# Altium footprint library RF_Module.PcbLib: 68 footprints (part 2 of 5)
Each footprint in its own frame and in the unit in brackets; x right, y up, seen from the top. Pads: shape width x height; smd on the part's side, far side on the other; paste and mask are expansions set on the pad; w line width, h text height; cw(c..) or ccw(c..) is an arc to the next point about the centre after c.
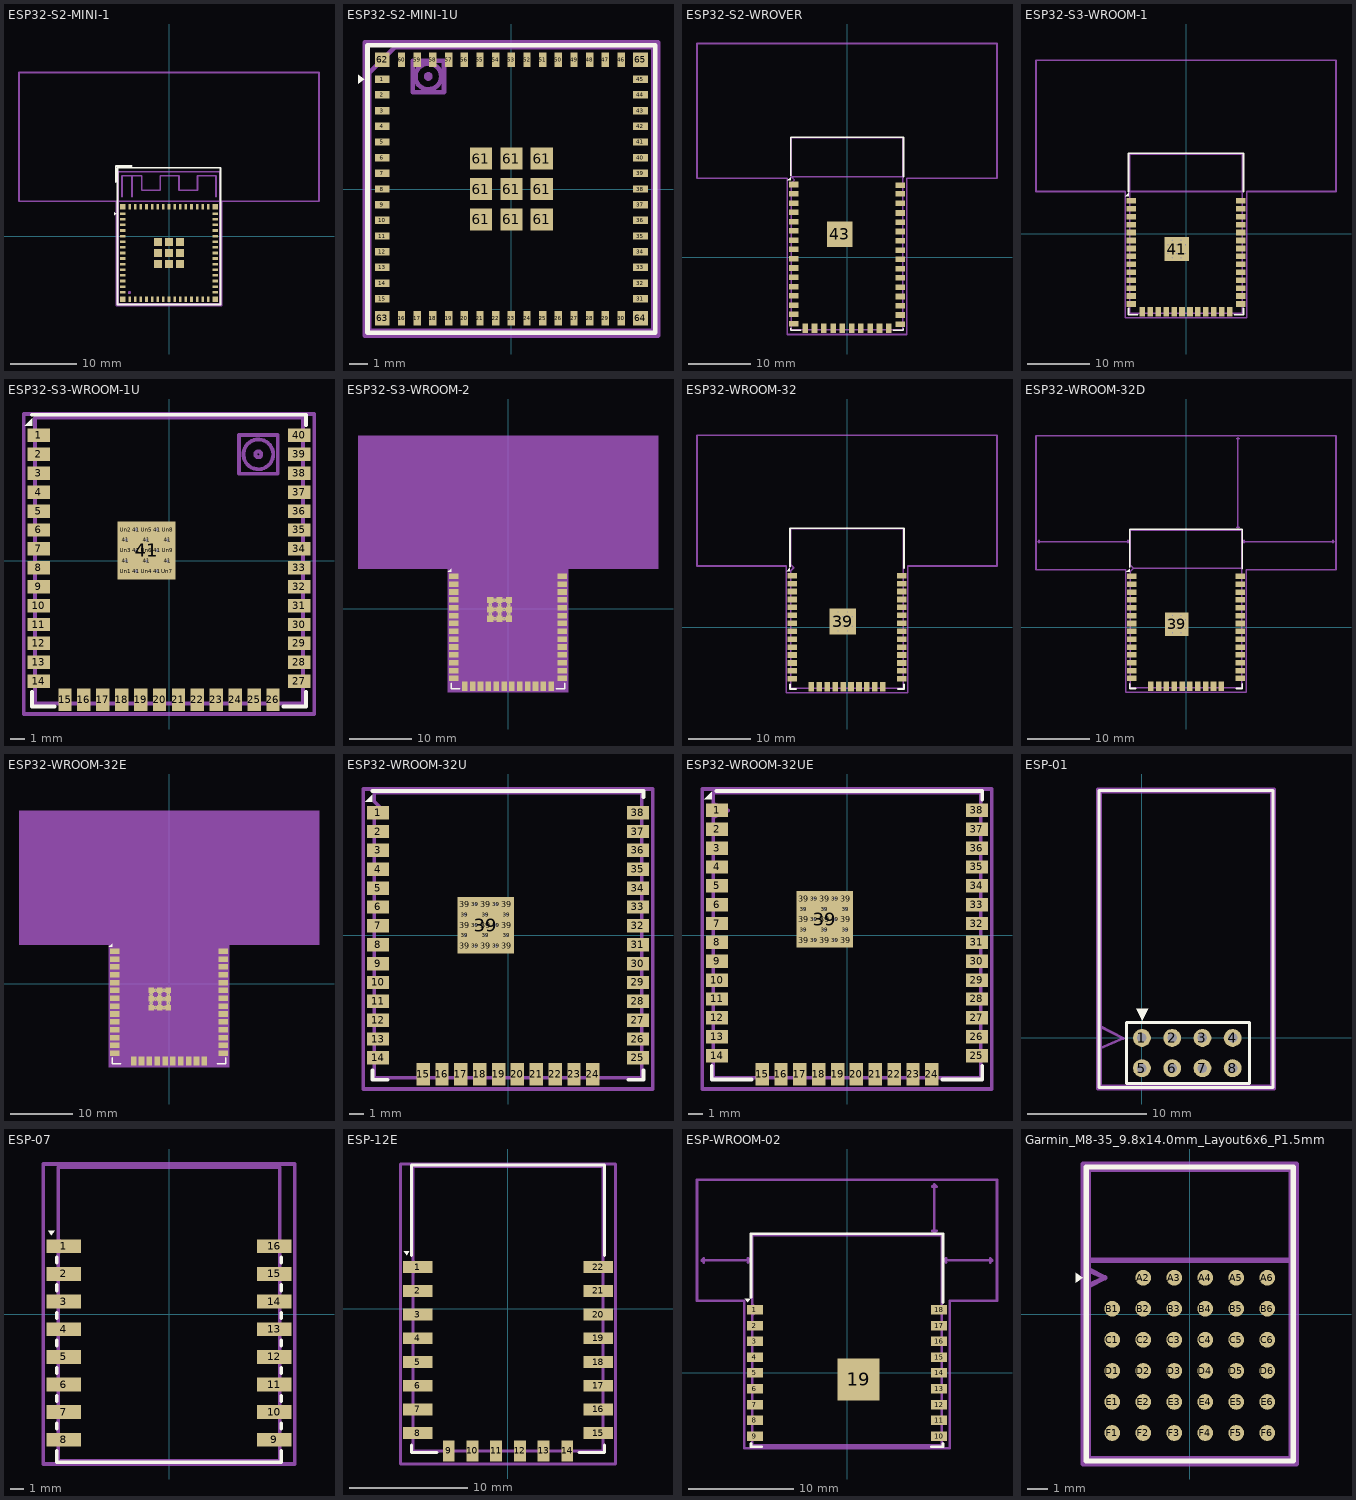
[diagram p1: the footprints below, top view; thin cyan lines are the x and y axes]

## ESP32-S2-MINI-1 [mm]
pads (73):
  rect 0.8x0.4 smd: 1(-7,3.4) 2(-7,2.55) 3(-7,1.7) 4(-7,0.85) 5(-7,0) 6(-7,-0.85) 7(-7,-1.7) 8(-7,-2.55) 9(-7,-3.4) 10(-7,-4.25) 11(-7,-5.1) 12(-7,-5.95) 13(-7,-6.8) 14(-7,-7.65) 15(-7,-8.5) 31(7,-8.5) 32(7,-7.65) 33(7,-6.8) 34(7,-5.95) 35(7,-5.1) 36(7,-4.25) 37(7,-3.4) 38(7,-2.55) 39(7,-1.7) 40(7,-0.85) 41(7,0) 42(7,0.85) 43(7,1.7) 44(7,2.55) 45(7,3.4)
  rect 0.4x0.8 smd: 16(-5.95,-9.55) 17(-5.1,-9.55) 18(-4.25,-9.55) 19(-3.4,-9.55) 20(-2.55,-9.55) 21(-1.7,-9.55) 22(-0.85,-9.55) 23(0,-9.55) 24(0.85,-9.55) 25(1.7,-9.55) 26(2.55,-9.55) 27(3.4,-9.55) 28(4.25,-9.55) 29(5.1,-9.55) 30(5.95,-9.55) 46(5.95,4.45) 47(5.1,4.45) 48(4.25,4.45) 49(3.4,4.45) 50(2.55,4.45) 51(1.7,4.45) 52(0.85,4.45) 53(0,4.45) 54(-0.85,4.45) 55(-1.7,4.45) 56(-2.55,4.45) 57(-3.4,4.45) 58(-4.25,4.45) 59(-5.1,4.45) 60(-5.95,4.45)
  rect 1.2x1.2 smd: 61(-1.65,-4.2) 61(-1.65,-2.55) 61(0,-4.2) 61(0,-2.55) 61(0,-0.9) 61(1.65,-4.2) 61(1.65,-2.55) 61(1.65,-0.9)
  rrect0% 1.2x1.2 smd: 61(-1.65,-0.9)
  rect 0.8x0.8 smd: 62(-7,4.45) 63(-7,-9.55) 64(7,-9.55) 65(7,4.45)
F.SilkS:
  region: -7.975,3.4 -8.311,3.16 -8.311,3.64
  lines w0.254: -8.075,8.15 -8.075,10.6 -5.625,10.6 ; -7.8,-10.35 -7.8,10.35 7.8,10.35 7.8,-10.35 -7.8,-10.35
F.Fab:
  circle w0.254: c-6,-8.55 r0.112
  lines w0.254: -7.7,5.25 7.7,5.25 ; -7.1,6 -7.1,9.15 -4.1,9.15 -4.1,6.95 -1.3,6.95 -1.3,9.15 1.5,9.15 1.5,6.95 4.3,6.95 4.3,9.15 7.1,9.15 7.1,6 ; -5.6,6 -5.6,9.15 ; -7.7,-10.25 -7.7,9.75 7.7,9.75 7.7,-10.25 -7.7,-10.25
  text "'.Designator'" at -4.047,-5.89 h1
F.CrtYd:
  lines w0.254: -22.7,5.25 -22.7,24.75 22.7,24.75 22.7,5.25 7.95,5.25 7.95,-10.5 -7.95,-10.5 -7.95,5.25 -22.7,5.25
Cmts.User:
  text "Keepout Area" at -4.661,14.543 h1
  text "Antenna" at -2.766,7.025 h1

## ESP32-S2-MINI-1U [mm]
pads (73):
  rect 0.8x0.4 smd: 1(-7,5.95) 2(-7,5.1) 3(-7,4.25) 4(-7,3.4) 5(-7,2.55) 6(-7,1.7) 7(-7,0.85) 8(-7,0) 9(-7,-0.85) 10(-7,-1.7) 11(-7,-2.55) 12(-7,-3.4) 13(-7,-4.25) 14(-7,-5.1) 15(-7,-5.95) 31(7,-5.95) 32(7,-5.1) 33(7,-4.25) 34(7,-3.4) 35(7,-2.55) 36(7,-1.7) 37(7,-0.85) 38(7,0) 39(7,0.85) 40(7,1.7) 41(7,2.55) 42(7,3.4) 43(7,4.25) 44(7,5.1) 45(7,5.95)
  rect 0.4x0.8 smd: 16(-5.95,-7) 17(-5.1,-7) 18(-4.25,-7) 19(-3.4,-7) 20(-2.55,-7) 21(-1.7,-7) 22(-0.85,-7) 23(0,-7) 24(0.85,-7) 25(1.7,-7) 26(2.55,-7) 27(3.4,-7) 28(4.25,-7) 29(5.1,-7) 30(5.95,-7) 46(5.95,7) 47(5.1,7) 48(4.25,7) 49(3.4,7) 50(2.55,7) 51(1.7,7) 52(0.85,7) 53(0,7) 54(-0.85,7) 55(-1.7,7) 56(-2.55,7) 57(-3.4,7) 58(-4.25,7) 59(-5.1,7) 60(-5.95,7)
  rect 1.2x1.2 smd: 61(-1.65,-1.65) 61(-1.65,0) 61(0,-1.65) 61(0,0) 61(0,1.65) 61(1.65,-1.65) 61(1.65,0) 61(1.65,1.65)
  rrect0% 1.2x1.2 smd: 61(-1.65,1.65)
  rect 0.8x0.8 smd: 62(-7,7) 63(-7,-7) 64(7,-7) 65(7,7)
F.SilkS:
  region: -7.975,5.95 -8.311,5.71 -8.311,6.19
  lines w0.254: -7.8,-7.8 -7.8,7.8 7.8,7.8 7.8,-7.8 -7.8,-7.8
F.Fab:
  circle w0.254: c-4.5,6.1 r0.112
  circle w0.254: c-4.5,6.1 r0.7
  lines w0.254: -7.7,-7.7 -7.7,6.3 -6.3,7.7 7.7,7.7 7.7,-7.7 -7.7,-7.7 ; -5.35,5.25 -5.35,6.95 -3.65,6.95 -3.65,5.25 -5.35,5.25
  text "'.Designator'" at -4.047,-3.34 h1
F.CrtYd:
  lines w0.254: -7.95,-7.95 -7.95,7.95 7.95,7.95 7.95,-7.95 -7.95,-7.95

## ESP32-S2-WROVER [mm]
pads (52):
  rect 1.5x0.9 smd: 1(-8.625,11.775) 2(-8.625,10.275) 3(-8.625,8.775) 4(-8.625,7.275) 5(-8.625,5.775) 6(-8.625,4.275) 7(-8.625,2.775) 8(-8.625,1.275) 9(-8.625,-0.225) 10(-8.625,-1.725) 11(-8.625,-3.225) 12(-8.625,-4.725) 13(-8.625,-6.225) 14(-8.625,-7.725) 15(-8.625,-9.225) 16(-8.625,-10.725) 27(8.625,-10.825) 28(8.625,-9.325) 29(8.625,-7.825) 30(8.625,-6.325) 31(8.625,-4.825) 32(8.625,-3.325) 33(8.625,-1.825) 34(8.625,-0.325) 35(8.625,1.175) 36(8.625,2.675) 37(8.625,4.175) 38(8.625,5.675) 39(8.625,7.175) 40(8.625,8.775) 41(8.625,10.275) 42(8.625,11.675)
  rect 0.9x1.5 smd: 17(-6.75,-11.475) 18(-5.25,-11.475) 19(-3.75,-11.475) 20(-2.25,-11.475) 21(-0.75,-11.475) 22(0.75,-11.475) 23(2.25,-11.475) 24(3.75,-11.475) 25(5.25,-11.475) 26(6.75,-11.475)
  rect 4.1x4.1 smd: 43(-1.19,3.735)
  rrect23% 1.07x1.07 on Top Paste: Un1(-2.52,5.065) Un2(-2.52,3.735) Un3(-2.52,2.405) Un4(-1.19,5.065) Un5(-1.19,3.735) Un6(-1.19,2.405) Un7(0.14,5.065) Un8(0.14,3.735) Un9(0.14,2.405)
F.SilkS:
  region: -9.125,12.475 -9.625,12.475 -9.125,12.975
  lines w0.254: -9.125,13.2 -9.125,19.45 9.13,19.45 9.13,13.03 ; -9.12,-11.44 -9.12,-11.8 -7.46,-11.8 ; 7.46,-11.8 9.12,-11.8 9.12,-11.54
F.Fab:
  lines w0.254: -9,13.023 9,13.023 ; -9,19.32 -9,13.02 -8.5,12.52 -9,12.02 -9,-11.68 9,-11.68 9,19.32 ; -9,19.323 9,19.323
  text "'.Designator'" at -4.047,-0.84 h1
F.CrtYd:
  lines w0.254: -24.25,12.77 -9.63,12.77 -9.63,-12.47 9.63,-12.47 9.63,12.77 24.25,12.77 24.25,34.57 -24.25,34.57 -24.25,12.77
Cmts.User:
  text "ANTENNA" at -3.997,15.375 h1.25
  text "KEEP-OUT ZONE" at -11.609,25.94 h2

## ESP32-S3-WROOM-1 [mm]
pads (62):
  rect 1.5x0.9 smd: 1(-8.75,5.26) 2(-8.75,3.99) 3(-8.75,2.72) 4(-8.75,1.45) 5(-8.75,0.18) 6(-8.75,-1.09) 7(-8.75,-2.36) 8(-8.75,-3.63) 9(-8.75,-4.9) 10(-8.75,-6.17) 11(-8.75,-7.44) 12(-8.75,-8.71) 13(-8.75,-9.98) 14(-8.75,-11.25) 27(8.75,-11.25) 28(8.75,-9.98) 29(8.75,-8.71) 30(8.75,-7.44) 31(8.75,-6.17) 32(8.75,-4.9) 33(8.75,-3.63) 34(8.75,-2.36) 35(8.75,-1.09) 36(8.75,0.18) 37(8.75,1.45) 38(8.75,2.72) 39(8.75,3.99) 40(8.75,5.26)
  rect 0.9x1.5 smd: 15(-6.985,-12.5) 16(-5.715,-12.5) 17(-4.445,-12.5) 18(-3.175,-12.5) 19(-1.905,-12.5) 20(-0.635,-12.5) 21(0.635,-12.5) 22(1.905,-12.5) 23(3.175,-12.5) 24(4.445,-12.5) 25(5.715,-12.5) 26(6.985,-12.5)
  round 0.6 hole 0.2: 41(-2.9,-3.16) 41(-2.9,-1.76) 41(-2.2,-3.86) 41(-2.2,-2.46) 41(-2.2,-1.06) 41(-1.5,-3.16) 41(-1.5,-1.76) 41(-0.8,-3.86) 41(-0.8,-2.46) 41(-0.8,-1.06) 41(-0.1,-3.16) 41(-0.1,-1.76)
  rect 3.9x3.9 smd: 41(-1.5,-2.46)
  rect 0.9x0.9 on Top Paste: Un1(-2.9,-1.06) Un2(-2.9,-2.46) Un3(-2.9,-3.86) Un4(-1.5,-1.06) Un5(-1.5,-2.46) Un6(-1.5,-3.86) Un7(-0.1,-1.06) Un8(-0.1,-2.46) Un9(-0.1,-3.86)
F.SilkS:
  region: -9.2,6.025 -9.7,6.025 -9.2,6.525
  lines w0.254: -9.2,-11.95 -9.2,-12.95 -7.7,-12.95 ; -9.2,6.7 -9.2,12.9 9.2,12.9 9.2,6.7 ; 7.7,-12.95 9.2,-12.95 9.2,-11.95
F.Fab:
  lines w0.254: -9,6.75 9,6.75 ; -9,-12.75 -9,12.75 9,12.75 9,-12.75 -9,-12.75
  text "'.Designator'" at -4.047,-0.24 h1
F.CrtYd:
  lines w0.254: -24,6.75 -24,27.75 24,27.75 24,6.75 9.75,6.75 9.75,-13.45 -9.75,-13.45 -9.75,6.75 -24,6.75
Cmts.User:
  text "KEEP-OUT ZONE" at -11.609,17.77 h2
  text "Antenna" at -2.816,8.79 h1
3D body "ESP32-S3-WROOM-1.step": height 3.1, standoff 0, extent -9,-12.75 9,12.75

## ESP32-S3-WROOM-1U [mm]
pads (62):
  rect 1.5x0.9 smd: 1(-8.75,8.41) 2(-8.75,7.14) 3(-8.75,5.87) 4(-8.75,4.6) 5(-8.75,3.33) 6(-8.75,2.06) 7(-8.75,0.79) 8(-8.75,-0.48) 9(-8.75,-1.75) 10(-8.75,-3.02) 11(-8.75,-4.29) 12(-8.75,-5.56) 13(-8.75,-6.83) 14(-8.75,-8.1) 27(8.75,-8.1) 28(8.75,-6.83) 29(8.75,-5.56) 30(8.75,-4.29) 31(8.75,-3.02) 32(8.75,-1.75) 33(8.75,-0.48) 34(8.75,0.79) 35(8.75,2.06) 36(8.75,3.33) 37(8.75,4.6) 38(8.75,5.87) 39(8.75,7.14) 40(8.75,8.41)
  rect 0.9x1.5 smd: 15(-6.985,-9.35) 16(-5.715,-9.35) 17(-4.445,-9.35) 18(-3.175,-9.35) 19(-1.905,-9.35) 20(-0.635,-9.35) 21(0.635,-9.35) 22(1.905,-9.35) 23(3.175,-9.35) 24(4.445,-9.35) 25(5.715,-9.35) 26(6.985,-9.35)
  round 0.6 hole 0.2: 41(-2.9,-0.01) 41(-2.9,1.39) 41(-2.2,-0.71) 41(-2.2,0.69) 41(-2.2,2.09) 41(-1.5,-0.01) 41(-1.5,1.39) 41(-0.8,-0.71) 41(-0.8,0.69) 41(-0.8,2.09) 41(-0.1,-0.01) 41(-0.1,1.39)
  rect 3.9x3.9 smd: 41(-1.5,0.69)
  rect 0.9x0.9 on Top Paste: Un1(-2.904,-0.71) Un2(-2.9,2.09) Un3(-2.9,0.69) Un4(-1.504,-0.71) Un5(-1.5,2.09) Un6(-1.5,0.69) Un7(-0.104,-0.71) Un8(-0.1,2.09) Un9(-0.1,0.69)
F.SilkS:
  region: -9.2,9.05 -9.7,9.05 -9.2,9.55
  lines w0.254: -9.2,-8.8 -9.2,-9.8 -7.7,-9.8 ; -9.2,9.8 9.2,9.8 9.2,9.1 ; 7.7,-9.8 9.2,-9.8 9.2,-8.8
F.Fab:
  circle w0.254: c6,7.14 r1
  circle w0.254: c6,7.14 r0.2
  lines w0.254: -9,-9.6 9,-9.6 9,9.6 -9,9.6 -9,-9.6 ; 4.7,5.84 7.3,5.84 7.3,8.44 4.7,8.44 4.7,5.84
  text "'.Designator'" at -4.047,2.91 h1
F.CrtYd:
  lines w0.254: -9.75,-10.3 9.75,-10.3 9.75,9.85 -9.75,9.85 -9.75,-10.3

## ESP32-S3-WROOM-2 [mm]
pads (61):
  rect 1.5x0.9 smd: 1(-8.75,5.26) 2(-8.75,3.99) 3(-8.75,2.72) 4(-8.75,1.45) 5(-8.75,0.18) 6(-8.75,-1.09) 7(-8.75,-2.36) 8(-8.75,-3.63) 9(-8.75,-4.9) 10(-8.75,-6.17) 11(-8.75,-7.44) 12(-8.75,-8.71) 13(-8.75,-9.98) 14(-8.75,-11.25) 27(8.75,-11.25) 28(8.75,-9.98) 29(8.75,-8.71) 30(8.75,-7.44) 31(8.75,-6.17) 32(8.75,-4.9) 33(8.75,-3.63) 34(8.75,-2.36) 35(8.75,-1.09) 36(8.75,0.18) 37(8.75,1.45) 38(8.75,2.72) 39(8.75,3.99) 40(8.75,5.26)
  rect 0.9x1.5 smd: 15(-6.985,-12.5) 16(-5.715,-12.5) 17(-4.445,-12.5) 18(-3.175,-12.5) 19(-1.905,-12.5) 20(-0.635,-12.5) 21(0.635,-12.5) 22(1.905,-12.5) 23(3.175,-12.5) 24(4.445,-12.5) 25(5.715,-12.5) 26(6.985,-12.5)
  rect 1x1 smd: 41(-2.86,-1.59) 41(-2.86,-0.09) 41(-2.86,1.41) 41(-1.36,-1.59) 41(-1.36,-0.09) 41(-1.36,1.41) 41(0.14,-1.59) 41(0.14,-0.09) 41(0.14,1.41)
  round 0.6 hole 0.2: 41(-2.86,-0.84) 41(-2.86,0.66) 41(-2.11,-1.59) 41(-2.11,-0.09) 41(-2.11,1.41) 41(-1.36,-0.84) 41(-1.36,0.66) 41(-0.61,-1.59) 41(-0.61,-0.09) 41(-0.61,1.41) 41(0.14,-0.84) 41(0.14,0.66)
F.SilkS:
  region: -9.2,6 -9.7,6 -9.2,6.5
  lines w0.254: -9.2,-12 -9.2,-12.95 -7.8,-12.95 ; 7.8,-12.95 9.2,-12.95 9.2,-12
F.Fab:
  region: 7.5,6.75 7,6.75 7,11.75 5,11.75 5,6.75 4.5,6.75 4.5,11.75 2.5,11.75 2.5,9.25 -0.5,9.25 -0.5,11.75 -2.5,11.75 -2.5,9.25 -5.5,9.25 -5.5,11.75 -7.5,11.75 -7.5,8.25 -8,8.25 -8,12.25 -5,12.25 -5,9.75 -3,9.75 -3,12.25 0,12.25 0,9.75 2,9.75 2,12.25 7.5,12.25
  lines w0.254: -9,6.75 -9,12.75 9,12.75 9,6.75 ; -9,6.75 -9,-12.75 9,-12.75 9,6.75 ; -9,6.75 9,6.75
  text "'.Designator'" at -4.047,-3.84 h1
F.CrtYd:
  region: 24.25,6.5 9.75,6.5 9.75,-13.5 -9.75,-13.5 -9.75,6.5 -24.25,6.5 -24.25,28 24.25,28
3D body "ESP32-S3-WROOM-2.step": height 3.1, standoff 0, extent -9,-12.75 9,12.75

## ESP32-WROOM-32 [mm]
pads (60):
  rect 1.5x0.9 smd: 1(-8.75,8.25) 2(-8.75,6.98) 3(-8.75,5.71) 4(-8.75,4.44) 5(-8.75,3.17) 6(-8.75,1.9) 7(-8.75,0.63) 8(-8.75,-0.64) 9(-8.75,-1.91) 10(-8.75,-3.18) 11(-8.75,-4.45) 12(-8.75,-5.72) 13(-8.75,-6.99) 14(-8.75,-8.26) 25(8.75,-8.26) 26(8.75,-6.99) 27(8.75,-5.72) 28(8.75,-4.45) 29(8.75,-3.18) 30(8.75,-1.91) 31(8.75,-0.64) 32(8.75,0.63) 33(8.75,1.9) 34(8.75,3.17) 35(8.75,4.44) 36(8.75,5.71) 37(8.75,6.98) 38(8.75,8.25)
  rect 0.9x1.5 smd: 15(-5.71,-9.51) 16(-4.44,-9.51) 17(-3.17,-9.51) 18(-1.9,-9.51) 19(-0.63,-9.51) 20(0.64,-9.51) 21(1.91,-9.51) 22(3.18,-9.51) 23(4.45,-9.51) 24(5.72,-9.51)
  rect 1.05x1.05 smd: 39(-2.205,-0.615) 39(-2.205,0.91) 39(-2.205,2.435) 39(-0.68,-0.615) 39(-0.68,0.91) 39(-0.68,2.435) 39(0.845,-0.615) 39(0.845,0.91) 39(0.845,2.435)
  round 0.6 hole 0.2: 39(-2.205,0.148) 39(-2.205,1.673) 39(-1.442,-0.615) 39(-1.442,0.91) 39(-1.442,2.435) 39(-0.68,0.148) 39(-0.68,1.673) 39(0.082,-0.615) 39(0.082,0.91) 39(0.082,2.435) 39(0.845,0.148) 39(0.845,1.673)
  rect 4.2x4.2 smd: 39(-0.68,0.91)
F.SilkS:
  region: -9.125,8.975 -9.625,8.975 -9.125,9.475
  lines w0.254: -9.12,-9.1 -9.12,-9.88 -8.12,-9.88 ; -9.12,9.7 -9.12,15.86 9.12,15.86 9.12,9.445 ; 8.12,-9.88 9.12,-9.88 9.12,-9.1
F.Fab:
  lines w0.254: -9,-9.76 -9,9.02 -8.5,9.52 -9,10.02 -9,15.74 9,15.74 9,-9.76 -9,-9.76
  text "'.Designator'" at -4.047,-0.84 h1
F.CrtYd:
  lines w0.254: -24,9.8 -24,30.74 24,30.74 24,9.8 9.75,9.8 9.75,-10.51 -9.75,-10.51 -9.75,9.8 -24,9.8
Cmts.User:
  text "KEEP-OUT ZONE" at -11.559,21.33 h2
  text "Antenna" at -2.766,12.35 h1
3D body "ESP32-WROOM-32.step": height 3.1, standoff 0, extent -9,-9.755 9,15.745

## ESP32-WROOM-32D [mm]
pads (60):
  rect 1.5x0.9 smd: 1(-8.75,8.25) 2(-8.75,6.98) 3(-8.75,5.71) 4(-8.75,4.44) 5(-8.75,3.17) 6(-8.75,1.9) 7(-8.75,0.63) 8(-8.75,-0.64) 9(-8.75,-1.91) 10(-8.75,-3.18) 11(-8.75,-4.45) 12(-8.75,-5.72) 13(-8.75,-6.99) 14(-8.75,-8.26) 25(8.75,-8.26) 26(8.75,-6.99) 27(8.75,-5.72) 28(8.75,-4.45) 29(8.75,-3.18) 30(8.75,-1.91) 31(8.75,-0.64) 32(8.75,0.63) 33(8.75,1.9) 34(8.75,3.17) 35(8.75,4.44) 36(8.75,5.71) 37(8.75,6.98) 38(8.75,8.25)
  rect 0.9x1.5 smd: 15(-5.71,-9.51) 16(-4.44,-9.51) 17(-3.17,-9.51) 18(-1.9,-9.51) 19(-0.63,-9.51) 20(0.64,-9.51) 21(1.91,-9.51) 22(3.18,-9.51) 23(4.45,-9.51) 24(5.72,-9.51)
  rect 0.9x0.9 smd: 39(-2.9,-0.87) 39(-2.9,0.53) 39(-2.9,1.93) 39(-1.5,-0.87) 39(-1.5,0.53) 39(-1.5,1.93) 39(-0.1,-0.87) 39(-0.1,0.53) 39(-0.1,1.93)
  round 0.6 hole 0.2: 39(-2.9,-0.17) 39(-2.9,1.23) 39(-2.2,-0.87) 39(-2.2,0.53) 39(-2.2,1.93) 39(-1.525,-0.17) 39(-1.525,1.23) 39(-0.8,-0.87) 39(-0.8,0.53) 39(-0.8,1.93) 39(-0.1,-0.17) 39(-0.1,1.23)
  rect 3.8x3.8 smd: 39(-1.5,0.53)
F.SilkS:
  region: -9.125,8.975 -9.625,8.975 -9.125,9.475
  lines w0.254: -9.12,-9.1 -9.12,-9.88 -8.12,-9.88 ; -9.12,9.7 -9.12,15.86 9.12,15.86 9.12,9.445 ; 8.12,-9.88 9.12,-9.88 9.12,-9.1
F.Fab:
  lines w0.254: 9,9.55 -8.5,9.55 ; -8.5,9.55 -9,10.05 -9,15.74 9,15.74 9,-9.76 -9,-9.76 -9,9.05 -8.5,9.55
  text "'.Designator'" at -4.047,-0.84 h1
F.CrtYd:
  lines w0.254: -24.25,9.3 -9.75,9.3 -9.75,-10.5 9.75,-10.5 9.75,9.3 24.25,9.3 24.25,30.99 -24.25,30.99 -24.25,9.3
Cmts.User:
  lines w0.254: -23.74,13.675 -23.94,13.875 ; -23.74,14.075 -23.94,13.875 ; -9.4,13.675 -9.2,13.875 ; -9.4,14.075 -9.2,13.875 ; 8.2,16.2 8.4,16 ; 8.2,30.48 8.4,30.68 ; 8.6,16.2 8.4,16 ; 8.6,30.48 8.4,30.68 ; 9.4,13.675 9.2,13.875 ; 9.4,14.075 9.2,13.875 ; 23.74,13.675 23.94,13.875 ; 23.74,14.075 23.94,13.875 ; -23.94,13.875 -9.2,13.875 ; 8.4,16 8.4,30.68 ; 9.2,13.875 23.94,13.875
  text "5 mm" at -17.321,14.025 h0.5
  text "Antenna" at -2.766,12.35 h1
  text "KEEP-OUT ZONE" at -5.88,18.35 h1
  text "5 mm" at 8.15,22.879 h0.5
  text "5 mm" at 15.079,14.025 h0.5

## ESP32-WROOM-32E [mm]
pads (59):
  rect 1.5x0.9 smd: 1(-8.75,5.26) 2(-8.75,3.99) 3(-8.75,2.72) 4(-8.75,1.45) 5(-8.75,0.18) 6(-8.75,-1.09) 7(-8.75,-2.36) 8(-8.75,-3.63) 9(-8.75,-4.9) 10(-8.75,-6.17) 11(-8.75,-7.44) 12(-8.75,-8.71) 13(-8.75,-9.98) 14(-8.75,-11.25) 25(8.75,-11.25) 26(8.75,-9.98) 27(8.75,-8.71) 28(8.75,-7.44) 29(8.75,-6.17) 30(8.75,-4.9) 31(8.75,-3.63) 32(8.75,-2.36) 33(8.75,-1.09) 34(8.75,0.18) 35(8.75,1.45) 36(8.75,2.72) 37(8.75,3.99) 38(8.75,5.26)
  rect 0.9x1.5 smd: 15(-5.715,-12.5) 16(-4.445,-12.5) 17(-3.175,-12.5) 18(-1.905,-12.5) 19(-0.635,-12.5) 20(0.635,-12.5) 21(1.905,-12.5) 22(3.175,-12.5) 23(4.445,-12.5) 24(5.715,-12.5)
  rect 0.9x0.9 smd: 39(-2.9,-3.86) 39(-2.9,-2.46) 39(-2.9,-1.06) 39(-1.5,-3.86) 39(-1.5,-2.46) 39(-1.5,-1.06) 39(-0.1,-3.86) 39(-0.1,-2.46) 39(-0.1,-1.06)
  round 0.6 hole 0.2: 39(-2.9,-3.16) 39(-2.9,-1.76) 39(-2.2,-3.86) 39(-2.2,-2.46) 39(-2.2,-1.06) 39(-1.5,-3.16) 39(-1.5,-1.76) 39(-0.8,-3.86) 39(-0.8,-2.46) 39(-0.8,-1.06) 39(-0.1,-3.16) 39(-0.1,-1.76)
F.SilkS:
  region: -9.2,6 -9.7,6 -9.2,6.5
  lines w0.254: -9.2,-12 -9.2,-12.95 -7.8,-12.95 ; 7.8,-12.95 9.2,-12.95 9.2,-12
F.Fab:
  region: 7.5,6.75 7,6.75 7,11.75 5,11.75 5,6.75 4.5,6.75 4.5,11.75 2.5,11.75 2.5,9.25 -0.5,9.25 -0.5,11.75 -2.5,11.75 -2.5,9.25 -5.5,9.25 -5.5,11.75 -7.5,11.75 -7.5,8.25 -8,8.25 -8,12.25 -5,12.25 -5,9.75 -3,9.75 -3,12.25 0,12.25 0,9.75 2,9.75 2,12.25 7.5,12.25
  lines w0.254: -9,6.56 9,6.56 ; -9,6.56 -9,-12.75 9,-12.75 9,6.56 ; -9,6.56 -9,12.75 9,12.75 9,6.56
  text "'.Designator'" at -4.047,0.16 h1
F.CrtYd:
  region: 24.25,6.31 9.75,6.31 9.75,-13.54 -9.75,-13.54 -9.75,6.31 -24.25,6.31 -24.25,28 24.25,28
3D body "ESP32-WROOM-32E.step": height 3.1, standoff 0, extent -9,-12.75 9,12.75

## ESP32-WROOM-32U [mm]
pads (60):
  rect 1.5x0.9 smd: 1(-8.75,8.255) 2(-8.75,6.985) 3(-8.75,5.715) 4(-8.75,4.445) 5(-8.75,3.175) 6(-8.75,1.905) 7(-8.75,0.635) 8(-8.75,-0.635) 9(-8.75,-1.905) 10(-8.75,-3.175) 11(-8.75,-4.445) 12(-8.75,-5.715) 13(-8.75,-6.985) 14(-8.75,-8.255) 25(8.75,-8.255) 26(8.75,-6.985) 27(8.75,-5.715) 28(8.75,-4.445) 29(8.75,-3.175) 30(8.75,-1.905) 31(8.75,-0.635) 32(8.75,0.635) 33(8.75,1.905) 34(8.75,3.175) 35(8.75,4.445) 36(8.75,5.715) 37(8.75,6.985) 38(8.75,8.255)
  rect 0.9x1.5 smd: 15(-5.715,-9.35) 16(-4.445,-9.35) 17(-3.175,-9.35) 18(-1.905,-9.35) 19(-0.635,-9.35) 20(0.635,-9.35) 21(1.905,-9.35) 22(3.175,-9.35) 23(4.445,-9.35) 24(5.715,-9.35)
  rect 0.9x0.9 smd: 39(-2.9,-0.71) 39(-2.9,0.69) 39(-2.9,2.09) 39(-1.5,-0.71) 39(-1.5,0.69) 39(-1.5,2.09) 39(-0.1,-0.71) 39(-0.1,0.69) 39(-0.1,2.09)
  round 0.6 hole 0.2: 39(-2.9,-0.01) 39(-2.9,1.39) 39(-2.2,-0.71) 39(-2.2,0.69) 39(-2.2,2.09) 39(-1.5,-0.01) 39(-1.5,1.39) 39(-0.8,-0.71) 39(-0.8,0.69) 39(-0.8,2.09) 39(-0.1,-0.01) 39(-0.1,1.39)
  rect 3.8x3.8 smd: 39(-1.5,0.69)
F.SilkS:
  region: -9.125,8.975 -9.625,8.975 -9.125,9.475
  lines w0.254: -9.12,-9.1 -9.12,-9.72 -8.12,-9.72 ; -9.12,9.72 9.12,9.72 9.12,9.3 ; 8.12,-9.72 9.12,-9.72 9.12,-9.1
F.Fab:
  lines w0.254: -9,-9.6 9,-9.6 9,9.6 -9,9.6 -9,9 -8.5,8.5 -9,8 -9,-9.6
  text "'.Designator'" at -4.047,-0.84 h1
F.CrtYd:
  lines w0.254: -9.75,-10.35 9.75,-10.35 9.75,9.85 -9.75,9.85 -9.75,-10.35
3D body "ESP32-WROOM-32U.step": height 3.2, standoff 0, extent -9.1,-9.61 8.9,9.59

## ESP32-WROOM-32UE [mm]
pads (60):
  rect 1.5x0.9 smd: 1(-8.75,8.41) 2(-8.75,7.14) 3(-8.75,5.87) 4(-8.75,4.6) 5(-8.75,3.33) 6(-8.75,2.06) 7(-8.75,0.79) 8(-8.75,-0.48) 9(-8.75,-1.75) 10(-8.75,-3.02) 11(-8.75,-4.29) 12(-8.75,-5.56) 13(-8.75,-6.83) 14(-8.75,-8.1) 25(8.75,-8.1) 26(8.75,-6.83) 27(8.75,-5.56) 28(8.75,-4.29) 29(8.75,-3.02) 30(8.75,-1.75) 31(8.75,-0.48) 32(8.75,0.79) 33(8.75,2.06) 34(8.75,3.33) 35(8.75,4.6) 36(8.75,5.87) 37(8.75,7.14) 38(8.75,8.41)
  rect 0.9x1.5 smd: 15(-5.715,-9.35) 16(-4.445,-9.35) 17(-3.175,-9.35) 18(-1.905,-9.35) 19(-0.635,-9.35) 20(0.635,-9.35) 21(1.905,-9.35) 22(3.175,-9.35) 23(4.445,-9.35) 24(5.715,-9.35)
  rect 0.9x0.9 smd: 39(-2.9,-0.33) 39(-2.9,1.07) 39(-2.9,2.47) 39(-1.5,-0.33) 39(-1.5,1.07) 39(-1.5,2.47) 39(-0.1,-0.33) 39(-0.1,1.07) 39(-0.1,2.47)
  round 0.6 hole 0.2: 39(-2.9,0.37) 39(-2.9,1.77) 39(-2.2,-0.33) 39(-2.2,1.07) 39(-2.2,2.47) 39(-1.5,0.37) 39(-1.5,1.77) 39(-0.8,-0.33) 39(-0.8,1.07) 39(-0.8,2.47) 39(-0.1,0.37) 39(-0.1,1.77)
  rect 3.8x3.8 smd: 39(-1.5,1.07)
F.SilkS:
  region: -9.11,9.15 -9.61,9.15 -9.11,9.65
  lines w0.254: -9.11,-8.81 -9.11,-9.71 -6.425,-9.71 ; -8.8,9.71 9.11,9.71 9.11,9.12 ; 6.425,-9.71 9.11,-9.71 9.11,-8.81
F.Fab:
  lines w0.254: -9,-9.6 9,-9.6 9,9.6 -9,9.6 -9,8.86 -8,8.41 -9,7.96 -9,-9.6
  text "'.Designator'" at -4.047,-0.84 h1
F.CrtYd:
  lines w0.254: -9.75,-10.35 9.75,-10.35 9.75,9.85 -9.75,9.85 -9.75,-10.35

## ESP-01 [mm]
pads (8):
  round 1.5 hole 0.8: 1(0,0) 2(2.54,0) 3(5.08,0) 4(7.62,0) 5(0,-2.54) 6(2.54,-2.54) 7(5.08,-2.54) 8(7.62,-2.54)
F.SilkS:
  region: 0.019,1.45 -0.481,2.45 0.519,2.45
  lines w0.254: -3.61,-4.15 11.01,-4.15 11.01,20.77 -3.61,20.77 -3.61,-4.15 ; -1.3,-3.84 9.02,-3.84 9.02,1.3 -1.3,1.3 -1.3,-3.84
F.Fab:
  lines w0.254: -3.5,-4.04 10.9,-4.04 10.9,20.66 -3.5,20.66 -3.5,-4.04 ; -3.5,-0.87 -1.56,-0.03 -3.5,0.96 -3.5,-0.87
  text "'.Designator'" at -0.297,7.21 h1
F.CrtYd:
  lines w0.254: -3.75,-4.29 11.15,-4.29 11.15,20.91 -3.75,20.91 -3.75,-4.29

## ESP-07 [mm]
pads (16):
  rect 2.5x1 smd: 1(-7.6,4.9) 2(-7.6,2.9) 3(-7.6,0.9) 4(-7.6,-1.1) 5(-7.6,-3.1) 6(-7.6,-5.1) 7(-7.6,-7.1) 8(-7.6,-9.1) 9(7.6,-9.1) 10(7.6,-7.1) 11(7.6,-5.1) 12(7.6,-3.1) 13(7.6,-1.1) 14(7.6,0.9) 15(7.6,2.9) 16(7.6,4.9)
F.SilkS:
  region: -8.5,5.7 -8.74,6.036 -8.26,6.036
  lines w0.254: -8.12,-9.9 -8.12,-10.72 8.12,-10.72 8.12,-9.9 ; -8.12,-8.3 -8.12,-7.9 ; -8.12,-6.3 -8.12,-5.9 ; -8.12,-4.3 -8.12,-3.9 ; -8.12,-2.3 -8.12,-1.9 ; -8.12,-0.3 -8.12,0.1 ; -8.12,1.7 -8.12,2.1 ; -8.12,3.7 -8.12,4.1 ; 8.12,-8.3 8.12,-7.9 ; 8.12,-6.3 8.12,-5.9 ; 8.12,-4.3 8.12,-3.9 ; 8.12,-2.3 8.12,-1.9 ; 8.12,-0.3 8.12,0.1 ; 8.12,1.7 8.12,2.1 ; 8.12,3.7 8.12,4.1
F.Fab:
  lines w0.254: -8,-10.6 -8,4.4 -7.5,4.9 -8,5.4 -8,10.6 8,10.6 8,-10.6 -8,-10.6
  text "'.Designator'" at -4.047,-0.84 h1
F.CrtYd:
  lines w0.254: -9.1,-10.85 -9.1,10.85 9.1,10.85 9.1,-10.85 -9.1,-10.85
Cmts.User:
  text "KEEP-OUT ZONE" at -5.88,16.65 h1
  text "No metal, traces, or components / on any PCB layer if using on-board antenna" at -12.687,12.871 h0.8

## ESP-12E [mm]
pads (22):
  rect 2.5x1 smd: 1(-7.6,3.5) 2(-7.6,1.5) 3(-7.6,-0.5) 4(-7.6,-2.5) 5(-7.6,-4.5) 6(-7.6,-6.5) 7(-7.6,-8.5) 8(-7.6,-10.5) 15(7.6,-10.5) 16(7.6,-8.5) 17(7.6,-6.5) 18(7.6,-4.5) 19(7.6,-2.5) 20(7.6,-0.5) 21(7.6,1.5) 22(7.6,3.5)
  rect 1x1.8 smd: 9(-5,-12) 10(-3,-12) 11(-1,-12) 12(1,-12) 13(3,-12) 14(5,-12)
F.SilkS:
  region: -8.55,4.5 -8.79,4.836 -8.31,4.836
  lines w0.254: -8.12,-11.5 -8.12,-12.12 -6,-12.12 ; -8.12,4.5 -8.12,12.12 8.12,12.12 8.12,4.5 ; 6,-12.12 8.12,-12.12 8.12,-11.5
F.Fab:
  lines w0.254: -8,-12 8,-12 8,12 -8,12 -8,4 -7.5,3.5 -8,3 -8,-12
  text "'.Designator'" at -3.557,-0.04 h1
F.CrtYd:
  lines w0.254: -9.05,-13.1 9.05,-13.1 9.05,12.2 -9.05,12.2 -9.05,-13.1
Cmts.User:
  text "KEEP-OUT ZONE" at -5.85,8.9 h1
  text "Antenna" at -2.826,6.35 h1

## ESP-WROOM-02 [mm]
pads (19):
  rect 1.5x0.9 smd: 1(-8.75,6) 2(-8.75,4.5) 3(-8.75,3) 4(-8.75,1.5) 5(-8.75,0) 6(-8.75,-1.5) 7(-8.75,-3) 8(-8.75,-4.5) 9(-8.75,-6) 10(8.75,-6) 11(8.75,-4.5) 12(8.75,-3) 13(8.75,-1.5) 14(8.75,0) 15(8.75,1.5) 16(8.75,3) 17(8.75,4.5) 18(8.75,6)
  rect 4x4 smd: 19(1.1,-0.61)
F.SilkS:
  region: -9.45,6.7 -9.69,7.036 -9.21,7.036
  lines w0.254: -9.12,-6.7 -9.12,-7.02 -8.1,-7.02 ; -9.12,7.2 -9.12,13.22 9.12,13.22 9.12,6.7 ; 8,-7.02 9.12,-7.02 ; 9.12,-7 9.12,-6.7
F.Fab:
  lines w0.254: -9,-6.9 -9,5.5 -8.5,6 -9,6.5 -9,13.1 9,13.1 9,-6.9 -9,-6.9
  text "'.Designator'" at -4.047,-0.84 h1
F.CrtYd:
  lines w0.254: -14.25,6.85 -14.25,18.35 14.25,18.35 14.25,6.85 9.75,6.85 9.75,-7.15 -9.75,-7.15 -9.75,6.85 -14.25,6.85
Cmts.User:
  lines w0.254: -13.6,10.5 -13.8,10.7 ; -13.6,10.9 -13.8,10.7 ; -9.4,10.5 -9.2,10.7 ; -9.4,10.9 -9.2,10.7 ; 8.1,13.5 8.3,13.3 ; 8.1,17.7 8.3,17.9 ; 8.5,13.5 8.3,13.3 ; 8.5,17.7 8.3,17.9 ; 9.4,10.5 9.2,10.7 ; 9.4,10.9 9.2,10.7 ; 13.6,10.5 13.8,10.7 ; 13.6,10.9 13.8,10.7 ; -13.8,10.7 -9.2,10.7 ; 8.3,13.3 8.3,17.9 ; 9.2,10.7 13.8,10.7
  text "Antenna" at -2.766,9.35 h1
  text "KEEP-OUT ZONE" at -5.88,15.35 h1
  text "5 mm" at 8.15,14.779 h0.5
  text "5 mm" at 10.679,10.85 h0.5
3D body "ESP-WROOM-02.step": height 2.93, standoff 0, extent -9,-6.9 9,13.1

## Garmin_M8-35_9.8x14.0mm_Layout6x6_P1.5mm [mm]
pads (35):
  round 0.762 smd: A2(-2.25,1.75) A3(-0.75,1.75) A4(0.75,1.75) A5(2.25,1.75) A6(3.75,1.75) B1(-3.75,0.25) B2(-2.25,0.25) B3(-0.75,0.25) B4(0.75,0.25) B5(2.25,0.25) B6(3.75,0.25) C1(-3.75,-1.25) C2(-2.25,-1.25) C3(-0.75,-1.25) C4(0.75,-1.25) C5(2.25,-1.25) C6(3.75,-1.25) D1(-3.75,-2.75) D2(-2.25,-2.75) D3(-0.75,-2.75) D4(0.75,-2.75) D5(2.25,-2.75) D6(3.75,-2.75) E1(-3.75,-4.25) E2(-2.25,-4.25) E3(-0.75,-4.25) E4(0.75,-4.25) E5(2.25,-4.25) E6(3.75,-4.25) F1(-3.75,-5.75) F2(-2.25,-5.75) F3(-0.75,-5.75) F4(0.75,-5.75) F5(2.25,-5.75) F6(3.75,-5.75)
F.SilkS:
  region: -5.175,1.75 -5.511,1.51 -5.511,1.99
  lines w0.254: -5,-7.1 5,-7.1 5,7.1 -5,7.1 -5,-7.1
F.Paste:
  drawing of 140 lines, arcs and shapes, not listed
F.Fab:
  lines w0.254: -4.9,1.35 -4.1,1.75 -4.9,2.15 ; -4.9,2.6 4.9,2.6 ; -4.9,-7 4.9,-7 4.9,7 -4.9,7 -4.9,-7
  text "'.Designator'" at -4.047,-0.84 h1
F.CrtYd:
  lines w0.254: -5.15,-7.25 5.15,-7.25 5.15,7.25 -5.15,7.25 -5.15,-7.25
Cmts.User:
  text "COPPER" at -2.761,5.45 h1
  text "KEEP-OUT" at -3.704,3.75 h1